# Altium footprint library Connectors$.PcbLib: 17 footprints (part 1 of 2)
Each footprint in its own frame and in the unit in brackets; x right, y up, seen from the top. Pads: shape width x height; smd on the part's side, far side on the other; paste and mask are expansions set on the pad; w line width, h text height; cw(c..) or ccw(c..) is an arc to the next point about the centre after c.
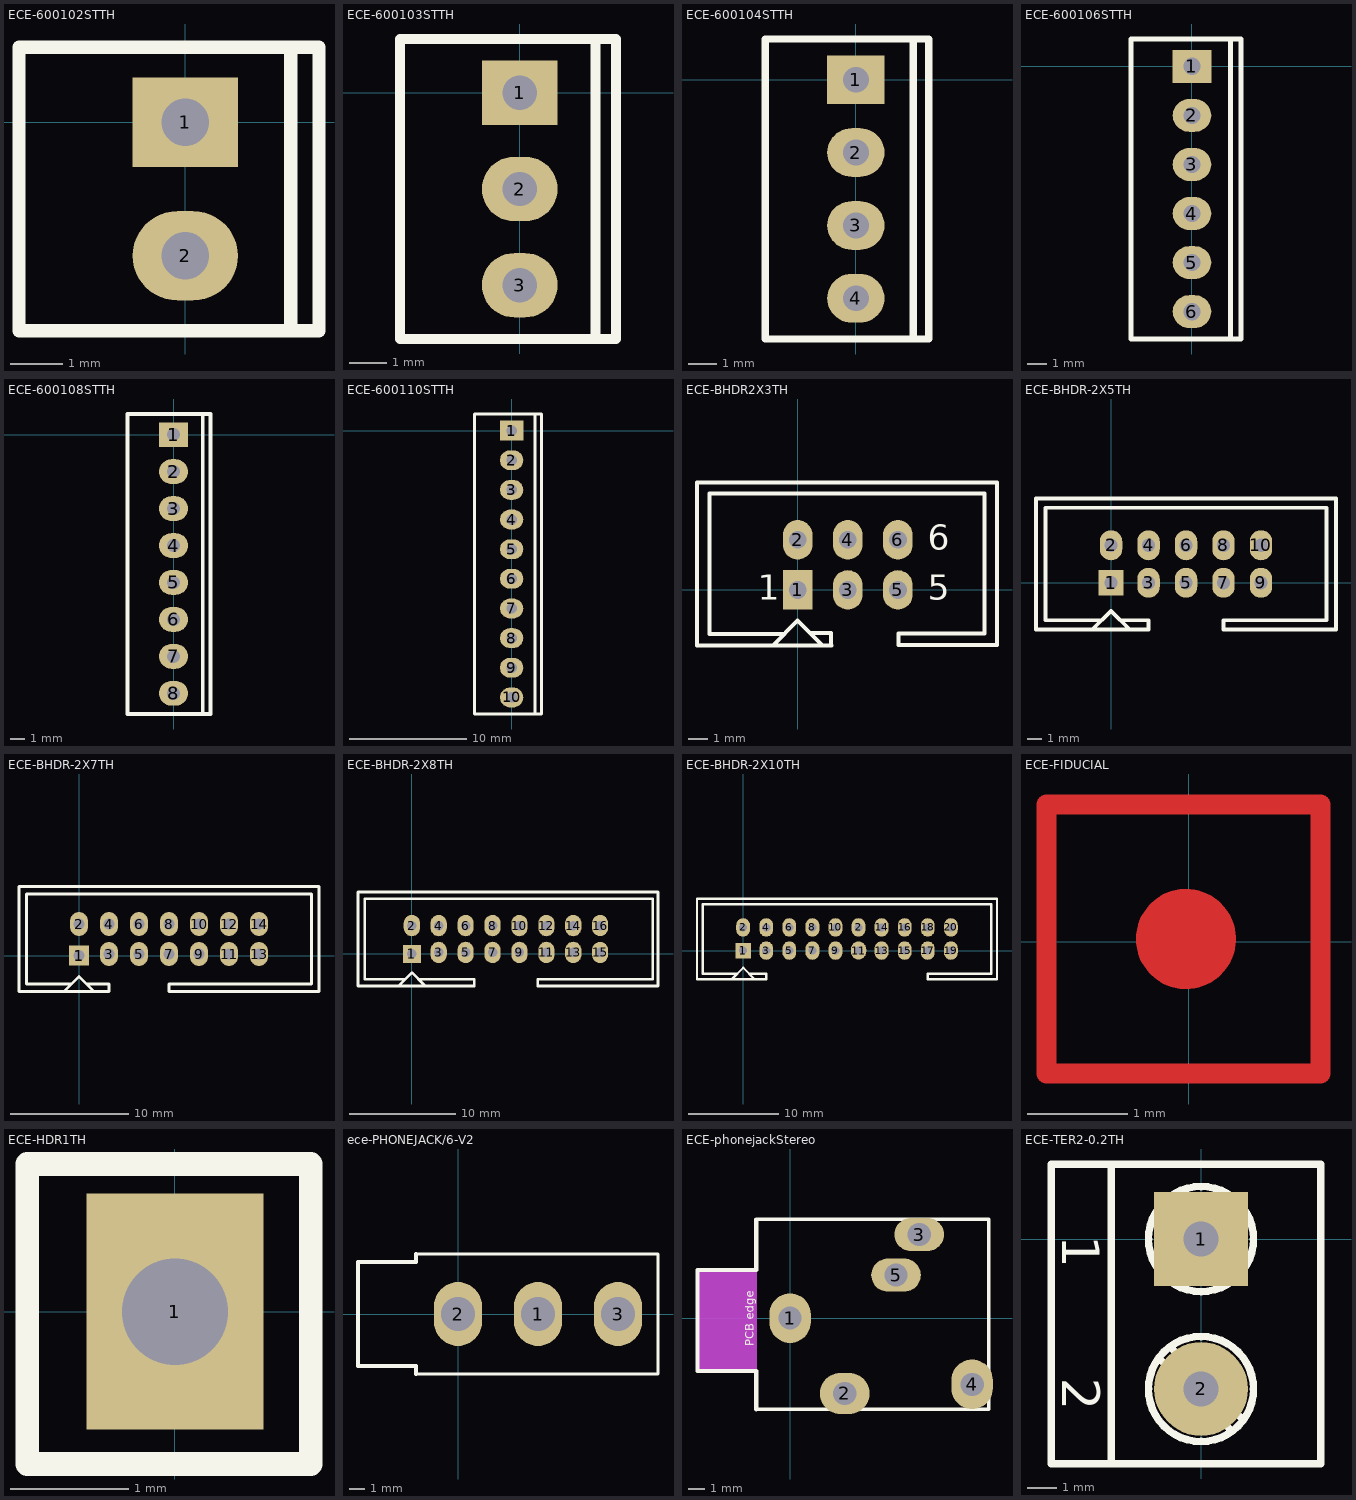
[diagram p0: the footprints below, top view; thin cyan lines are the x and y axes]

## ECE-600102STTH [mm] "Polarised Header 2 way"
height 8.5
pads (2):
  rect 2x1.7 hole 0.9: 1(0,0)
  oval 2x1.7 hole 0.9: 2(0,-2.54)
Top Overlay:
  lines w0.254: 2,-3.96 2,1.42 ; -3.16,-3.96 2.54,-3.96 2.54,1.42 -3.16,1.42 -3.16,-3.96
3D body "2PIN.STEP": height 7.39, standoff -6.2, extent -3.302,-3.64 3.175,1.44

## ECE-600103STTH [mm] "Polarised Header 3 way"
height 8.5
pads (3):
  rect 2x1.7 hole 0.9: 1(0,0)
  oval 2x1.7 hole 0.9: 2(0,-2.54) 3(0,-5.08)
Top Overlay:
  lines w0.254: 2,-6.5 2,1.42 ; -3.16,-6.5 2.54,-6.5 2.54,1.42 -3.16,1.42 -3.16,-6.5

## ECE-600104STTH [mm] "Polarised Header 4 way"
height 8.5
pads (4):
  rect 2x1.7 hole 0.9: 1(0,0)
  oval 2x1.7 hole 0.9: 2(0,-2.54) 3(0,-5.08) 4(0,-7.62)
Top Overlay:
  lines w0.254: 2,-9.04 2,1.42 ; -3.16,-9.04 2.54,-9.04 2.54,1.42 -3.16,1.42 -3.16,-9.04

## ECE-600106STTH [mm] "Polarised Header 6 way"
height 8.5
pads (6):
  rect 2x1.7 hole 0.9: 1(0,0)
  oval 2x1.7 hole 0.9: 2(0,-2.54) 3(0,-5.08) 4(0,-7.62) 5(0,-10.16) 6(0,-12.7)
Top Overlay:
  lines w0.254: 2,-14.12 2,1.42 ; -3.16,-14.12 -3.16,1.42 2.54,1.42 2.54,-14.12 -3.16,-14.12

## ECE-600108STTH [mm] "Polarised Header 8 way"
height 8.5
pads (8):
  rect 2x1.7 hole 0.9: 1(0,0)
  oval 2x1.7 hole 0.9: 2(0,-2.54) 3(0,-5.08) 4(0,-7.62) 5(0,-10.16) 6(0,-12.7) 7(0,-15.24) 8(0,-17.78)
Top Overlay:
  lines w0.254: 2,-19.2 2,1.42 ; -3.16,-19.2 -3.16,1.42 2.54,1.42 2.54,-19.2 -3.16,-19.2

## ECE-600110STTH [mm] "Polarised Header 10 way"
height 8.5
pads (10):
  rect 2x1.7 hole 0.9: 1(0,0)
  oval 2x1.7 hole 0.9: 2(0,-2.54) 3(0,-5.08) 4(0,-7.62) 5(0,-10.16) 6(0,-12.7) 7(0,-15.24) 8(0,-17.78) 9(0,-20.32) 10(0,-22.86)
Top Overlay:
  lines w0.254: 2,-24.28 2,1.42 ; -3.16,-24.28 -3.16,1.42 2.54,1.42 2.54,-24.28 -3.16,-24.28

## ECE-BHDR2X3TH [mm] "IDC 3X2 Way 2.54 pitch"
height 9.3
pads (6):
  rect 1.5x2 hole 0.9: 1(0,0)
  oval 1.5x2 hole 0.9 paste+0: 2(0,2.54)
  oval 1.5x2 hole 0.9: 3(2.54,0) 4(2.54,2.54) 5(5.08,0) 6(5.08,2.54)
Top Overlay:
  lines w0.2: -5.1,-2.8 -5.1,5.45 ; -4.465,4.89 -4.465,-2.24 -0.69,-2.24 ; -4.455,4.89 9.465,4.89 9.465,-2.2 ; -1.26,-2.81 0,-1.55 1.26,-2.81 ; 0.635,-2.185 1.7,-2.185 1.7,-2.8 ; 1.72,-2.82 -5.1,-2.82 -5.1,5.45 ; 5.1,-2.3 5.1,-2.8 10.1,-2.8 ; 5.1,-2.2 9.415,-2.2 ; 10.1,-2.75 10.1,5.45 ; -5.1,5.45 10.1,5.45 ; 10.1,-2.8 10.1,5.45 ; 10.1,-2.8 10.1,5.45
  text "6" at 6.604,2.032 h1.27
  text "5" at 6.604,-0.508 h1.27
  text "1" at -2.032,-0.508 h1.27
3D body "IDC3X2.STEP": height 9.1, standoff -3.1, extent -5.07,-3.175 10.17,6.275

## ECE-BHDR-2X5TH [mil] "IDC 10 pin 2.54 pitch"
height 354.33
pads (10):
  rect 66.93x66.93 hole 35.43: 1(0,0)
  oval 60x80 hole 35.43: 2(0,100) 3(100,0) 4(100,100) 5(200,0) 6(200,100) 7(300,0) 8(300,100) 9(400,0) 10(400,100)
Top Overlay:
  lines w10: -50,-125 0,-75 50,-125 ; -25,-100 -175,-100 -175,200 575,200 575,-100 300,-100 300,-125 600,-125 600,225 -200,225 -200,-125 100,-125 100,-100 25,-100

## ECE-BHDR-2X7TH [mil] "IDC 14 pin 2.54 pitch"
height 354.33
pads (14):
  rect 66.93x66.93 hole 35.43: 1(0,0)
  oval 60x80 hole 35.43: 2(0,105) 3(100,5) 4(100,105) 5(200,5) 6(200,105) 7(300,5) 8(300,105) 9(400,5) 10(400,105) 11(500,5) 12(500,105) 13(600,5) 14(600,105)
Top Overlay:
  lines w10: -50,-120 0,-70 50,-120 ; -25,-95 -175,-95 -175,205 575,205 775,205 775,-95 575,-95 300,-95 300,-120 600,-120 800,-120 800,230 600,230 -200,230 -200,-120 100,-120 100,-95 25,-95

## ECE-BHDR-2X8TH [mil] "IDC 16 pin 2.54 pitch"
height 354.33
pads (16):
  rect 66.93x66.93 hole 35.43: 1(0,0)
  oval 60x80 hole 35.43: 2(0,105) 3(100,5) 4(100,105) 5(200,5) 6(200,105) 7(300,5) 8(300,105) 9(400,5) 10(400,105) 11(500,5) 12(500,105) 13(600,5) 14(600,105)
  oval 60x78.74 hole 35.43: 15(700,5) 16(700,105)
Top Overlay:
  lines w10: -50,-120 0,-70 50,-120 ; -25,-95 -175,-95 -175,205 575,205 775,205 895,205 895,-95 775,-95 468.5,-95 468.5,-120 800,-120 915,-120 915,230 800,230 600,230 -200,230 -200,-120 232.28,-120 232.28,-95 25,-95

## ECE-BHDR-2X10TH [mil] "IDC 20 pin 2.54 pitch"
height 354.33
pads (20):
  rect 66.93x66.93 hole 35.43: 1(0,0)
  oval 60x80 hole 35.43: 2(0,100) 2(500,100) 3(100,0) 4(100,100) 5(200,0) 6(200,100) 7(300,0) 8(300,100) 9(400,0) 10(400,100) 13(600,0) 14(600,100) 15(700,0) 16(700,100) 17(800,0) 18(800,100) 19(900,0) 20(900,100)
  oval 66.93x78.74 hole 35.43: 11(500,0)
Top Overlay:
  lines w10: -50,-125 0,-75 50,-125 ; -25,-100 -175,-100 -175,200 1070,200 ; 25,-100 100,-100 100,-125 -200,-125 -200,225 1095,225 ; 1075,200 1075,-100 800,-100 800,-125 1100,-125 1100,225

## ECE-FIDUCIAL [mil] "Fiducial Marker"
Top Layer:
  circle w19.68: c-1,1 r9.84
  lines w7.87: 51,-52 -56,-52 -56,54 52,54 ; 52,-52 52,53
Top Solder:
  circle w19.68: c-1,1 r9.84
  rectangle: -60.06,-58.06 58.06,60.06

## ECE-HDR1TH [mm] "Test Pin"
height 3
pads (1):
  rect 1.5x2 hole 0.9: 1(0,0)
Top Overlay:
  lines w0.2: -1.25,-1.29 -1.25,1.25 1.15,1.25 1.15,-1.29 -1.25,-1.29

## ece-PHONEJACK/6-V2 [mil]
pads (3):
  oval 120x160 hole 85: 1(200,0) 2(0,0) 3(400,0)
Top Overlay:
  lines w7.87: -105,-150 500,-150 500,150 -105,150
  lines w10: -105,-150 -105,-130 -250,-130 -250,130 -105,130 -105,150

## ECE-phonejackStereo [mm]
pads (5):
  oval 2.5x3 hole 1.4: 1(0,0) 4(11,-4)
  oval 3x2.5 hole 1.4: 2(3.3,-4.55)
  oval 3x2 hole 1.4: 3(7.8,5.05) 5(6.4,2.6)
Top Overlay:
  lines w0.2: -2.05,-5.5 12,-5.5 12,5.966 -2.05,5.966
  lines w0.254: -2.05,-5.5 -2.05,-3.192 ; -2.05,-3.2 -5.6,-3.2 -5.6,2.9 -2.05,2.9 ; -2.05,2.908 -2.05,5.966
  text "PCB edge" at -2.2,-1.7 h0.5
Mechanical 15 keep-out:
  region: -5.625,2.9 -2.025,2.9 -2.025,-3.2 -5.625,-3.2

## ECE-TER2-0.2TH [mm] "Screw Terminal 2 pin pitch 5.08"
height 10
pads (2):
  rect 3.175x3.175 hole 1.2: 1(0,0)
  round 3.175 hole 1.2: 2(0,-5.08)
Top Overlay:
  circle w0.254: c0,0 r1.778
  circle w0.254: c0,-5.08 r1.778
  lines w0.254: -3.048,-7.62 -3.048,2.54 ; -1.397,-4.064 -0.381,-5.08 1.016,-6.477 ; -1.397,1.016 -0.381,0 1.016,-1.397 ; -1.016,-3.683 0.381,-5.08 1.397,-6.096 ; -1.016,1.397 0.381,0 1.397,-1.016 ; -5.08,-7.62 -5.08,2.54 4.064,2.54 4.064,-7.62 -5.08,-7.62
  text "2" at -4.699,-4.699 h1.27
  text "1" at -4.699,0.127 h1.27